# Altium footprint library WL-SWTP.PcbLib: 6 footprints
Each footprint in its own frame and in the unit in brackets; x right, y up, seen from the top. Pads: shape width x height; smd on the part's side, far side on the other; paste and mask are expansions set on the pad; w line width, h text height; cw(c..) or ccw(c..) is an arc to the next point about the centre after c.
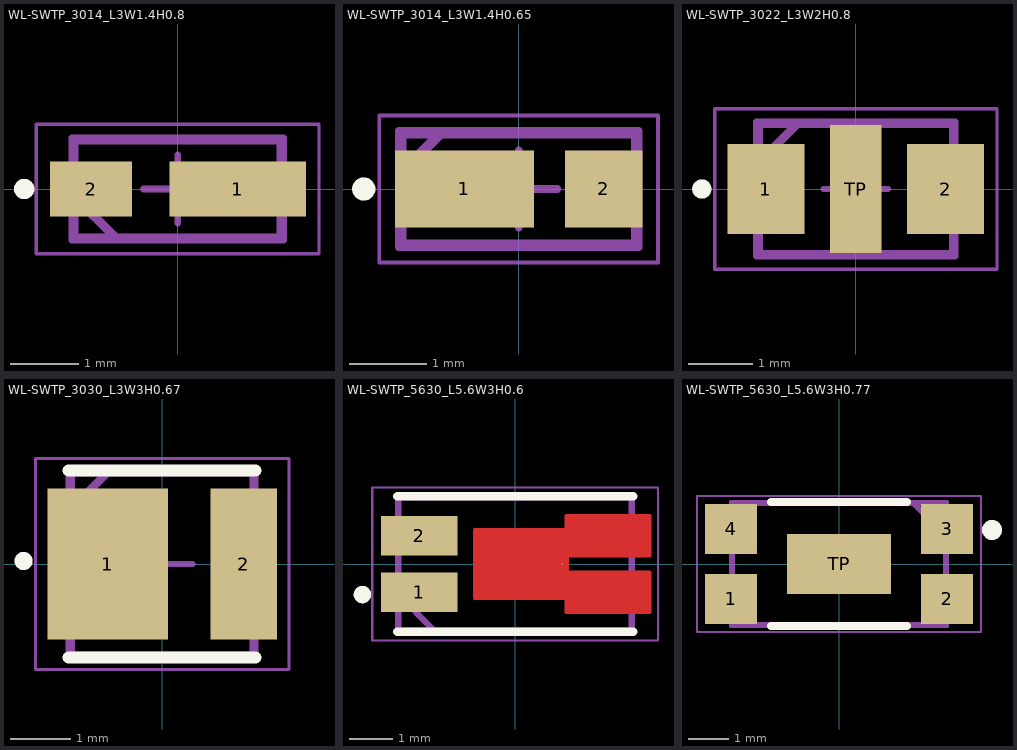
[diagram p0: the footprints below, top view; thin cyan lines are the x and y axes]

## WL-SWTP_3014_L3W1.4H0.8 [mm] "SMD White Top view PLCC, body 3x1.4mm"
height 0.8
pads (2):
  rect 2x0.8 smd: 1(0.88,0)
  rect 1.2x0.8 smd: 2(-1.27,0)
Top Overlay:
  circle w0.15: c-2.25,0 r0.075
Top Assembly:
  lines w0.1: -1.55,-0.1 -0.9,-0.75 ; -1.55,-0.75 -1.55,0.75 1.55,0.75 1.55,-0.75 -1.55,-0.75
Top Designator:
  text ".Designator" at -3.647,-0.357 h1
Top 3D Body:
  lines w0.1: -1.5,-0.1 -0.9,-0.7 ; -1.5,-0.7 1.5,-0.7 1.5,0.7 -1.5,0.7 -1.5,-0.7
Top Courtyard:
  lines w0.05: -2.07,-0.95 -2.07,0.95 2.07,0.95 2.07,-0.95 -2.07,-0.95
Top Component Center:
  lines w0.1: -0.5,0 0.5,0 ; 0,-0.5 0,0.5
3D body "WL-SWTP-158301xxx.stp": height 0.8, standoff 0, extent -1.5,-0.7 1.5,0.7

## WL-SWTP_3014_L3W1.4H0.65 [mm] "SMD White Top view PLCC, body 3x1.4mm"
height 0.65
pads (2):
  rect 1.8x1 smd: 1(-0.7,0)
  rect 1x1 smd: 2(1.1,0)
Top Overlay:
  circle w0.15: c-2,0 r0.075
Top Assembly:
  lines w0.1: -1.55,0.2 -1,0.75 ; -1.55,-0.75 -1.55,0.75 1.55,0.75 1.55,-0.75 -1.55,-0.75
Top Designator:
  text ".Designator" at -3.647,-0.357 h1
Top 3D Body:
  lines w0.1: -1.5,0.2 -1,0.7 ; -1.5,-0.7 -1.5,0.7 1.5,0.7 1.5,-0.7 -1.5,-0.7
Top Courtyard:
  lines w0.05: -1.8,-0.95 -1.8,0.95 1.8,0.95 1.8,-0.95 -1.8,-0.95
Top Component Center:
  lines w0.1: -0.5,0 0.5,0 ; 0,-0.5 0,0.5
3D body "1583012xxA.stp": height 0.65, standoff 0, extent -1.5,-0.7 1.5,0.7

## WL-SWTP_3022_L3W2H0.8 [mm] "SMD White Top view PLCC, body 3x2.1mm"
height 0.8
pads (3):
  rect 1.2x1.4 smd: 1(-1.4,0) 2(1.4,0)
  rect 0.8x2 smd: TP(0,0)
Top Overlay:
  circle w0.15: c-2.4,0 r0.075
Top Assembly:
  lines w0.1: -1.55,0.4 -0.9,1.05 ; -1.55,-1.05 1.55,-1.05 1.55,1.05 -1.55,1.05 -1.55,-1.05
Top Designator:
  text ".Designator" at -3.647,-0.357 h1
Top 3D Body:
  lines w0.1: -1.5,0.4 -0.9,1 ; -1.5,-1 1.5,-1 1.5,1 -1.5,1 -1.5,-1
Top Courtyard:
  lines w0.05: -2.2,-1.25 -2.2,1.25 2.2,1.25 2.2,-1.25 -2.2,-1.25
Top Component Center:
  lines w0.1: -0.5,0 0.5,0 ; 0,-0.5 0,0.5
3D body "WL-SWTP_158302xxx.stp": height 0.8, standoff 0, extent -1.5,-1 1.5,1

## WL-SWTP_3030_L3W3H0.67 [mm] "SMD White Top view PLCC, body 3x3mm"
height 0.67
pads (2):
  rect 2x2.5 smd: 1(-0.9,0)
  rect 1.1x2.5 smd: 2(1.35,0)
Top Overlay:
  circle w0.15: c-2.3,0.05 r0.075
  lines w0.2: -1.55,-1.55 1.55,-1.55 ; -1.55,1.55 1.55,1.55
Top Assembly:
  lines w0.1: -1.55,0.9 -0.9,1.55 ; -1.55,-1.55 -1.55,1.55 1.55,1.55 1.55,-1.55 -1.55,-1.55
Top Designator:
  text ".Designator" at -3.647,-0.357 h1
Top 3D Body:
  lines w0.1: -1.5,0.9 -0.9,1.5 ; -1.5,-1.5 -1.5,1.5 1.5,1.5 1.5,-1.5 -1.5,-1.5
Top Courtyard:
  lines w0.05: -2.1,-1.75 2.1,-1.75 2.1,1.75 -2.1,1.75 -2.1,-1.75
Top Component Center:
  lines w0.1: -0.5,0 0.5,0 ; 0,-0.5 0,0.5
3D body "1583032xxA.stp": height 0.67, standoff 0, extent -1.6,-1.5 1.6,1.5

## WL-SWTP_5630_L5.6W3H0.6 [mm] "SMD White Top view PLCC, body 5.6x3mm"
height 0.6
pads (3):
  rect 1.75x0.9 smd: 1(-2.2,-0.65) 2(-2.2,0.65)
  round 0.025 smd: 3(1.08,0)
Top Layer:
  region: -0.92,-0.775 -0.92,0.775 1.18,0.775 1.18,1.1 3.08,1.1 3.08,0.2 1.18,0.2 1.18,-0.2 3.08,-0.2 3.08,-1.1 1.18,-1.1 1.18,-0.775
  lines w0.1: 1.18,-1.1 1.18,-0.775 -0.92,-0.775 -0.92,0.775 1.18,0.775 1.18,1.1 3.08,1.1 ; 1.18,-1.1 1.18,-1.1 ; 1.18,-1.1 3.08,-1.1 3.08,-0.2 1.18,-0.2 1.18,0.2 3.08,0.2 3.08,1.1 ; 3.08,1.1 3.08,1.1
Top Overlay:
  circle w0.2: c-3.5,-0.7 r0.1
  lines w0.2: -2.7,-1.55 2.7,-1.55 ; -2.7,1.55 2.7,1.55
Top Assembly:
  lines w0.1: -2.7,-0.7 -1.85,-1.55 ; -2.7,-1.55 -2.7,1.55 2.7,1.55 2.7,-1.55 -2.7,-1.55
Top Designator:
  text ".Designator" at -3.647,-0.357 h1
Top 3D Body:
  lines w0.1: -2.65,-0.7 -1.85,-1.5 ; -2.65,-1.5 2.65,-1.5 2.65,1.5 -2.65,1.5 -2.65,-1.5
Top Courtyard:
  lines w0.05: -3.275,-1.75 3.275,-1.75 3.275,1.75 -3.275,1.75 -3.275,-1.75
Top Component Center:
  lines w0.1: -0.5,0 0.5,0 ; 0,-0.5 0,0.5
3D body "1585632xxA.stp": height 0.6, standoff 0, extent -2.8,-1.5 2.8,1.5

## WL-SWTP_5630_L5.6W3H0.77 [mm] "SMD White Top view PLCC, body 5.6x3mm"
height 0.77
pads (5):
  rect 1.3x1.25 smd: 1(-2.7,-0.875) 2(2.7,-0.875) 3(2.7,0.875) 4(-2.7,0.875)
  rect 2.6x1.5 smd: TP(0,0)
Top Overlay:
  circle w0.25: c3.825,0.85 r0.125
  lines w0.2: -1.7,-1.55 1.7,-1.55 ; -1.7,1.55 1.7,1.55
Top Assembly:
  lines w0.1: 1.85,1.55 2.7,0.7 ; -2.7,-1.55 2.7,-1.55 2.7,1.55 -2.7,1.55 -2.7,-1.55
Top Designator:
  text ".Designator" at -3.647,-0.357 h1
Top 3D Body:
  lines w0.1: 1.85,1.5 2.65,0.7 ; -2.65,-1.5 2.65,-1.5 2.65,1.5 -2.65,1.5 -2.65,-1.5
Top Courtyard:
  lines w0.05: -3.55,-1.7 3.55,-1.7 3.55,1.7 -3.55,1.7 -3.55,-1.7
Top Component Center:
  lines w0.1: -0.5,0 0.5,0 ; 0,-0.5 0,0.5
3D body "WL-SWTP_158563xxx.stp": height 0.79, standoff 0.02, extent -2.8,-1.5 2.8,1.5